# EAGLE library part AD8557-DIGITRIM-OPAMP (library components)
AD8557 Digitally controlled operational amplifier
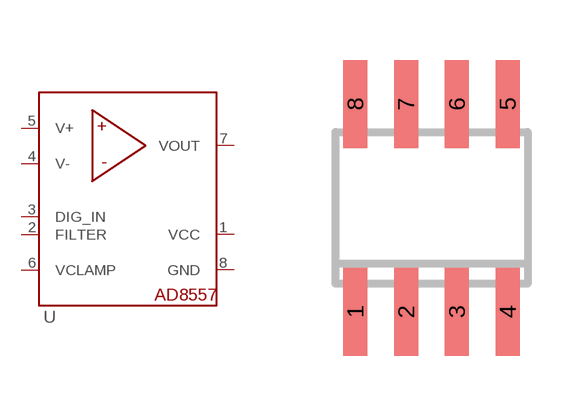
[diagram p34: symbol with the pads of SOIC8; footprint SOIC8]

Designator prefix U

## AD8557-DIGITRIM-OPAMP (DESCRIPTION: AD8557 Digitally controlled op-amp; DIGIKEY-PN: AD8557ARZ-ND; FOOTPRINT: SOIC-8)  [SOIC8]
1  VCC
2  FILTER
3  DIG_IN
4  V-
5  V+
6  VCLAMP
7  VOUT
8  GND

## Footprint SOIC8 (pad centres in mm)
Small Outline IC
smd 0.6 x 2.2: 1 -1.905,-2.6; 2 -0.635,-2.6; 3 0.635,-2.6; 4 1.905,-2.6; 5 1.905,2.6; 6 0.635,2.6; 7 -0.635,2.6; 8 -1.905,2.6